# Altium schematic symbol library FPV Ratel 2.SchLib: 1 symbol
Pins are listed as number, name and electrical type; pins without a type are passive.

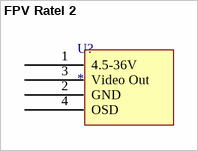
[diagram p0: symbol FPV Ratel 2]

## FPV Ratel 2
designator U?
footprint PCBComponent_1
pins: 1 4.5-36V, 2 GND, 3 Video Out, 4 OSD